# Altium footprint library CONN_USB_C.PcbLib: 34 footprints (part 3 of 3)
Each footprint in its own frame and in the unit in brackets; x right, y up, seen from the top. Pads: shape width x height; smd on the part's side, far side on the other; paste and mask are expansions set on the pad; w line width, h text height; cw(c..) or ccw(c..) is an arc to the next point about the centre after c.
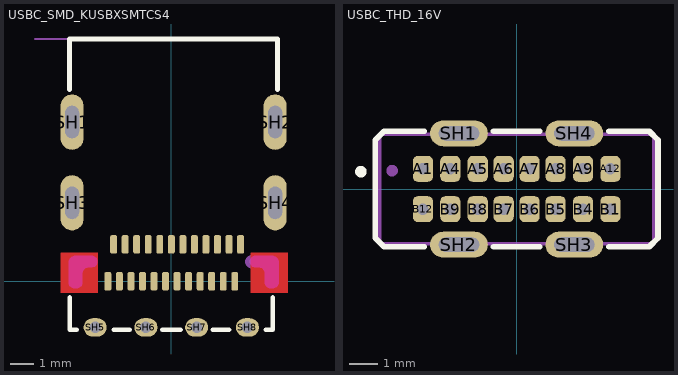
[diagram p2: the footprints below, top view; thin cyan lines are the x and y axes]

## USBC_SMD_KUSBXSMTCS4 [mm] "CONN, USB, Type C, KUSBX-SMT-CS4"
height 3.2
pads (32):
  rrect50% 0.3x0.8 smd mask+0.075: A1(2.75,0) A2(2.25,0) A3(1.75,0) A4(1.25,0) A5(0.75,0) A6(0.25,0) A7(-0.25,0) A8(-0.75,0) A9(-1.25,0) A10(-1.75,0) A11(-2.25,0) A12(-2.75,0) B1(-2.5,1.6) B2(-2,1.6) B3(-1.5,1.6) B4(-1,1.6) B5(-0.5,1.6) B6(0,1.6) B7(0.5,1.6) B8(1,1.6) B9(1.5,1.6) B10(2,1.6) B11(2.5,1.6) B12(3,1.6)
  oval 1x2.4 hole 0.6 slot 1.4 at 90 deg: SH1(-4.3,6.9) SH2(4.5,6.9) SH3(-4.3,3.4) SH4(4.5,3.4)
  oval 1x0.8 hole 0.5: SH5(-3.3,-2) SH6(-1.1,-2) SH7(1.1,-2) SH8(3.3,-2)
Top Layer:
  rectangle: -4.8,-0.5 -3.175,1.25
  region: 5.05,1.25 3.425,1.25 3.425,-0.5 5.05,-0.5
Top Overlay:
  lines w0.2: -4.41,8.3 -4.41,10.5 4.6,10.5 4.6,8.3 ; -4.4,-0.7 -4.4,-2.1 -4.1,-2.1 ; -2.5,-2.1 -1.8,-2.1 ; -0.4,-2.1 0.4,-2.1 ; 1.8,-2.1 2.5,-2.1 ; 4.1,-2.1 4.4,-2.1 4.4,-0.7
Keep-Out Layer:
  board cut-out: 4.4,-0.3 4.45,-0.3 4.542,-0.262 4.612,-0.192 4.65,-0.1 4.65,-0.05 4.65,0.8 4.65,0.86 4.604,0.97 4.52,1.054 4.41,1.1 4.35,1.1 3.65,1.1 3.6,1.1 3.508,1.062 3.438,0.992 3.4,0.9 3.4,0.85 3.4,0.8 3.438,0.708 3.508,0.638 3.6,0.6 3.65,0.6 3.8,0.6 3.849,0.595 3.939,0.558 4.008,0.489 4.045,0.399 4.05,0.35 4.05,-0.05 4.05,-0.1 4.088,-0.192 4.158,-0.262 4.25,-0.3 4.3,-0.3
  board cut-out: -4.2,-0.3 -4.25,-0.3 -4.342,-0.262 -4.412,-0.192 -4.45,-0.1 -4.45,-0.05 -4.45,0.8 -4.45,0.86 -4.404,0.97 -4.32,1.054 -4.21,1.1 -4.15,1.1 -3.45,1.1 -3.4,1.1 -3.308,1.062 -3.238,0.992 -3.2,0.9 -3.2,0.85 -3.2,0.8 -3.238,0.708 -3.308,0.638 -3.4,0.6 -3.45,0.6 -3.6,0.6 -3.649,0.595 -3.739,0.558 -3.808,0.489 -3.845,0.399 -3.85,0.35 -3.85,-0.05 -3.85,-0.1 -3.888,-0.192 -3.958,-0.262 -4.05,-0.3 -4.1,-0.3
Mechanical 1:
  lines w0.6: -4.15,0 -4.15,0.85 -3.5,0.85 ; 3.5,0.85 4.15,0.85 4.15,0
Mechanical 13:
  lines w0.1: -5.9,10.5 -3.9,10.5
  text "PCB EDGE" at -5.8,10.7 h0.8
3D body "KUSBX-SMT-CS4.STEP": height 3.23, standoff -1.18, extent -4.395,-2.04 4.645,10.4

## USBC_THD_16V [mm] "CONN, USB, Type C, THD Vertical"
height 10.5
pads (20):
  rrect50% 0.7x0.9 hole 0.4 mask+0.075: A1(-3.25,0.7) A4(-2.3,0.7) A5(-1.35,0.7) A6(-0.45,0.7) A7(0.45,0.7) A8(1.35,0.7) A9(2.3,0.7) A12(3.25,0.7) B1(3.25,-0.7) B4(2.3,-0.7) B5(1.35,-0.7) B6(0.45,-0.7) B7(-0.45,-0.7) B8(-1.35,-0.7) B9(-2.3,-0.7) B12(-3.25,-0.7)
  oval 2x0.9 hole 0.5 slot 1.4 at 0 deg mask+0: SH1(-2,1.93) SH2(-2,-1.93) SH3(2,-1.93) SH4(2,1.93)
Top Overlay:
  circle w0.2: c-5.4,0.6 r0.1
  lines w0.2: -3.2,-2 -4.6,-2 -4.9,-1.7 -4.9,1.7 -4.6,2 -3.2,2 ; -0.8,-2 0.8,-2 ; -0.8,2 0.8,2 ; 3.2,-2 4.6,-2 4.9,-1.7 4.9,1.7 4.6,2 3.2,2
Mechanical 13:
  circle w0.2: c-4.318,0.635 r0.1
  lines w0.127: -4.75,-1.9 4.75,-1.9 4.75,1.9 -4.75,1.9 -4.75,-1.9
3D body "step_temp.STEP": height 10.5, standoff -2, extent -4.75,-2.08 4.75,2.08